# EAGLE library part LT1990 (library components)
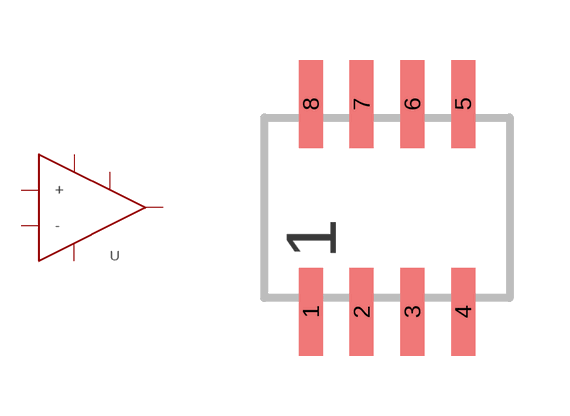
[diagram p35: symbol with the pads of SOP08; footprint SOP08]

Designator prefix U

## LT1990 (DESCRIPTION: LT1990 High CM op amp; DIGIKEY-PN: LT1990CS8#PBF-ND; FOOTPRINT: SO-8)  [SOP08]
1  SHUT  in
2  -  in
3  +  in
4  GND  pwr
6  OUT  out
7  VCC  pwr

## Footprint SOP08 (pad centres in mm)
SMALL OUTLINE PACKAGE
smd 0.6 x 2.2: 1 -1.905,-2.6; 2 -0.635,-2.6; 3 0.635,-2.6; 4 1.905,-2.6; 5 1.905,2.6; 6 0.635,2.6; 7 -0.635,2.6; 8 -1.905,2.6